# Altium footprint library Audio Port.PcbLib: 13 footprints
Each footprint in its own frame and in the unit in brackets; x right, y up, seen from the top. Pads: shape width x height; smd on the part's side, far side on the other; paste and mask are expansions set on the pad; w line width, h text height; cw(c..) or ccw(c..) is an arc to the next point about the centre after c.
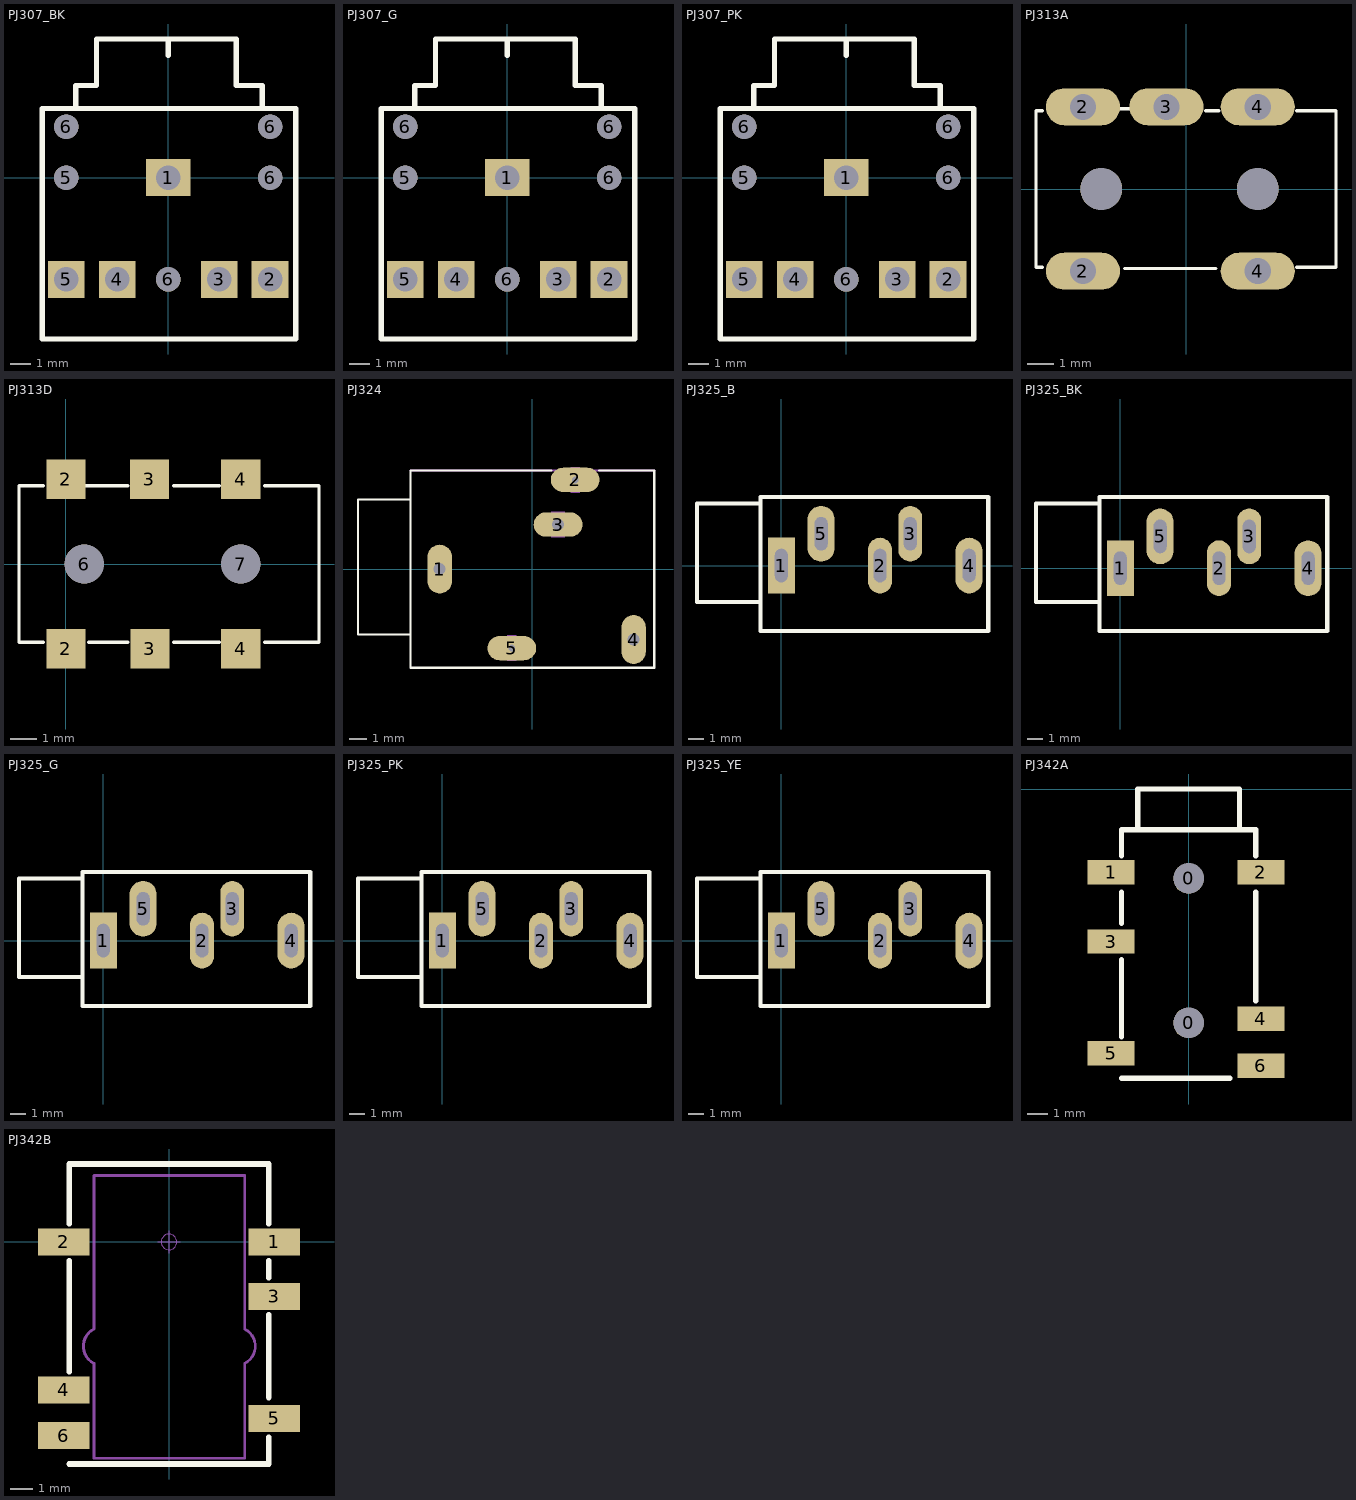
[diagram p0: the footprints below, top view; thin cyan lines are the x and y axes]

## PJ307_BK [mm] "14.2*12*5mm"
pads (10):
  rect 2.2x1.8 hole 1.2: 1(0,0)
  rect 1.8x1.8 hole 1.2: 2(5,-5) 3(2.5,-5) 4(-2.5,-5) 5(-5,-5)
  round 1.2 hole 1.2 unplated: 5(-5,0) 6(-5,2.5) 6(0,-5) 6(5,0) 6(5,2.5)
Top Overlay:
  lines w0.254: -4.532,3.382 -4.532,4.525 -3.516,4.525 -3.516,6.8 3.342,6.8 3.342,4.525 4.612,4.525 4.612,3.382 ; 0,6 0,6.8 ; -6.183,-7.921 6.263,-7.921 6.263,3.382 -6.183,3.382 -6.183,-7.921
3D body "3F07_BK.STEP": height 5.6, standoff -2.9, extent -6,-7.7 6,6.5

## PJ307_G [mm] "14.2*12*5mm"
pads (10):
  rect 2.2x1.8 hole 1.2: 1(0,0)
  rect 1.8x1.8 hole 1.2: 2(5,-5) 3(2.5,-5) 4(-2.5,-5) 5(-5,-5)
  round 1.2 hole 1.2 unplated: 5(-5,0) 6(-5,2.5) 6(0,-5) 6(5,0) 6(5,2.5)
Top Overlay:
  lines w0.254: -4.532,3.382 -4.532,4.525 -3.516,4.525 -3.516,6.8 3.342,6.8 3.342,4.525 4.612,4.525 4.612,3.382 ; 0,6 0,6.8 ; -6.183,-7.921 -6.183,3.382 6.263,3.382 6.263,-7.921 -6.183,-7.921
3D body "3F07_G.STEP": height 5.6, standoff -2.9, extent -6,-7.7 6,6.5

## PJ307_PK [mm] "14.2*12*5mm"
pads (10):
  rect 2.2x1.8 hole 1.2: 1(0,0)
  rect 1.8x1.8 hole 1.2: 2(5,-5) 3(2.5,-5) 4(-2.5,-5) 5(-5,-5)
  round 1.2 hole 1.2 unplated: 5(-5,0) 6(-5,2.5) 6(0,-5) 6(5,0) 6(5,2.5)
Top Overlay:
  lines w0.254: -4.532,3.382 -4.532,4.525 -3.516,4.525 -3.516,6.8 3.342,6.8 3.342,4.525 4.612,4.525 4.612,3.382 ; 0,6 0,6.8 ; -6.183,-7.921 -6.183,3.382 6.263,3.382 6.263,-7.921 -6.183,-7.921
3D body "3F07_PK.STEP": height 5.6, standoff -2.9, extent -6,-7.7 6,6.5

## PJ313A [mm]
pads (7):
  oval 2.845x1.422 hole 1: 2(-3.95,-3.15) 2(-3.95,3.15) 3(-0.75,3.15) 4(2.75,-3.15) 4(2.75,3.15)
  round 1.6 hole 1.6 unplated: ""(-3.25,0) ""(2.75,0)
Top Overlay:
  lines w0.127: -5.5,-3 -5.75,-3 -5.75,3 -5.5,3 ; -2.622,3.082 -2.122,3.082 ; -2.357,-3.048 1.143,-3.048 ; 0.75,3 1.25,3 ; 4.25,-3 5.75,-3 5.75,3 4.25,3
Mechanical 1:
  region: -0.1,2.75 -1.4,2.75 -1.4,3.55 -0.1,3.55
  region: 3.4,-3.55 2.1,-3.55 2.1,-2.75 3.4,-2.75
  region: 3.4,2.75 2.1,2.75 2.1,3.55 3.4,3.55
  region: -3.3,-3.55 -4.6,-3.55 -4.6,-2.75 -3.3,-2.75
  region: -3.3,2.75 -4.6,2.75 -4.6,3.55 -3.3,3.55
3D body "TRS Jack.stp": height 4.51, standoff -3.51, extent -8.238,-3.422 5.762,3.384

## PJ313D [mm]
pads (8):
  rect 1.5x1.5 smd: 2(0,-3.25) 2(0,3.25) 3(3.2,3.25) 3(3.22,-3.25) 4(6.7,-3.25) 4(6.7,3.25)
  round 1.5 hole 1.5 unplated: 6(0.7,0) 7(6.7,0)
Top Overlay:
  lines w0.127: -0.875,-3 -1.8,-3 -1.8,3 -0.875,3 ; 0.75,3 1.25,3 ; 0.875,-3 2.375,-3 ; 0.875,3 2.375,3 ; 4.125,-3 5.875,-3 ; 4.125,3 5.875,3 ; 4.25,3 5.75,3 ; 7.625,-3 9.7,-3 9.7,3 7.625,3
3D body "JackPJ313D.STEP": height 5.2, standoff -0.8, extent -4.46,-4.572 9.54,4.428

## PJ324 [mm]
pads (5):
  oval 1.422x2.845 hole 0.7: 1(-5.4,0) 4(5.9,-4.1)
  oval 2.845x1.422 hole 0.4: 2(2.5,5.2) 5(-1.2,-4.6)
  oval 2.845x1.422 hole 0.7: 3(1.5,2.6)
Top Overlay:
  lines w0.127: -7.112,-3.81 -10.16,-3.81 -10.16,4.064 -7.112,4.064 ; 1.125,5.75 -7.1,5.75 -7.1,-5.75 7.1,-5.75 7.1,5.75 3.875,5.75
Mechanical 1:
  region: 2.75,4.45 2.25,4.45 2.25,5.95 2.75,5.95
  region: -0.95,-5.35 -1.45,-5.35 -1.45,-3.85 -0.95,-3.85
  region: 6.3,-4.85 5.5,-4.85 5.5,-3.35 6.3,-3.35
  region: 1.9,1.85 1.1,1.85 1.1,3.35 1.9,3.35
  region: -5,-0.75 -5.8,-0.75 -5.8,0.75 -5,0.75
Mechanical 13:
  lines w0.127: -7.1,5.75 7.1,5.75

## PJ325_B [mm] "��ɫ��18*8.1*12.3mm"
pads (5):
  rect 1.7x3.5 hole 0.8 slot 2.1 at 90 deg: 1(0,0)
  oval 1.5x3.5 hole 0.8 slot 2.1 at 90 deg: 2(6.2,0) 3(8.1,2)
  oval 1.7x3.5 hole 0.8 slot 2.1 at 90 deg: 4(11.8,0) 5(2.5,2)
Top Overlay:
  lines w0.254: -1.3,-2.3 -5.3,-2.3 -5.3,3.9 -1.3,3.9 ; -1.3,-4.1 -1.3,4.3 13,4.3 13,-4.1 -1.3,-4.1
3D body "PJ325_B.STEP": height 12.35, standoff -2.9, extent -5.23,-3.9 12.8,4.2

## PJ325_BK [mm] "��ɫ��18*8.1*12.3mm"
pads (5):
  rect 1.7x3.5 hole 0.8 slot 2.1 at 90 deg: 1(0,0)
  oval 1.5x3.5 hole 0.8 slot 2.1 at 90 deg: 2(6.2,0) 3(8.1,2)
  oval 1.7x3.5 hole 0.8 slot 2.1 at 90 deg: 4(11.8,0) 5(2.5,2)
Top Overlay:
  lines w0.254: -1.3,-2.136 -5.3,-2.136 -5.3,4.064 -1.3,4.064 ; -1.3,-3.936 -1.3,4.464 13,4.464 13,-3.936 -1.3,-3.936
3D body "PJ325_BK.STEP": height 12.35, standoff -2.9, extent -5.23,-3.9 12.8,4.2

## PJ325_G [mm] "��ɫ��18*8.1*12.3mm"
pads (5):
  rect 1.7x3.5 hole 0.8 slot 2.1 at 90 deg: 1(0,0)
  oval 1.5x3.5 hole 0.8 slot 2.1 at 90 deg: 2(6.2,0) 3(8.1,2)
  oval 1.7x3.5 hole 0.8 slot 2.1 at 90 deg: 4(11.8,0) 5(2.5,2)
Top Overlay:
  lines w0.254: -1.3,-2.3 -5.3,-2.3 -5.3,3.9 -1.3,3.9 ; -1.3,-4.1 -1.3,4.3 13,4.3 13,-4.1 -1.3,-4.1
3D body "PJ325_G.STEP": height 12.35, standoff -2.9, extent -5.23,-3.9 12.8,4.2

## PJ325_PK [mm] "��ɫ��18*8.1*12.3mm"
pads (5):
  rect 1.7x3.5 hole 0.8 slot 2.1 at 90 deg: 1(0,0)
  oval 1.5x3.5 hole 0.8 slot 2.1 at 90 deg: 2(6.2,0) 3(8.1,2)
  oval 1.7x3.5 hole 0.8 slot 2.1 at 90 deg: 4(11.8,0) 5(2.5,2)
Top Overlay:
  lines w0.254: -1.3,-2.3 -5.3,-2.3 -5.3,3.9 -1.3,3.9 ; -1.3,-4.1 -1.3,4.3 13,4.3 13,-4.1 -1.3,-4.1
3D body "PJ325_PK.STEP": height 12.35, standoff -2.9, extent -5.23,-3.9 12.8,4.2

## PJ325_YE [mm] "��ɫ��18*8.1*12.3mm"
pads (5):
  rect 1.7x3.5 hole 0.8 slot 2.1 at 90 deg: 1(0,0)
  oval 1.5x3.5 hole 0.8 slot 2.1 at 90 deg: 2(6.2,0) 3(8.1,2)
  oval 1.7x3.5 hole 0.8 slot 2.1 at 90 deg: 4(11.8,0) 5(2.5,2)
Top Overlay:
  lines w0.254: -1.3,-2.3 -5.3,-2.3 -5.3,3.9 -1.3,3.9 ; -1.3,-4.1 -1.3,4.3 13,4.3 13,-4.1 -1.3,-4.1
3D body "PJ325_YE.STEP": height 12.35, standoff -2.9, extent -5.23,-3.9 12.8,4.2

## PJ342A [mm] "��ͷ"
pads (8):
  round 1.5 hole 1.5: 0(0,-11.5) 0(0,-4.4)
  rect 2.3x1.2 smd: 1(-3.81,-4.1) 2(3.556,-4.1) 3(-3.81,-7.5) 4(3.556,-11.3) 5(-3.81,-13) 6(3.556,-13.6)
Top Overlay:
  lines w0.254: -3.302,-14.224 2.032,-14.224 ; -3.302,-12.192 -3.302,-8.382 ; -3.302,-6.604 -3.302,-5.08 ; -3.302,-3.302 -3.302,-2 3.302,-2 3.302,-3.302 ; -2.5,-2 -2.5,0 2.5,0 2.5,-2 ; 3.302,-10.414 3.302,-5.08
3D body "PJ342A.STEP": height 4.7, standoff -0.6, extent -4.15,-14.1 4.15,0

## PJ342B [mm] "����ʽ����ͷ"
pads (6):
  rect 2.3x1.2 smd: 1(4.699,0) 2(-4.699,0) 3(4.699,-2.43) 4(-4.699,-6.604) 5(4.699,-7.874) 6(-4.699,-8.636)
Top Overlay:
  lines w0.254: -4.445,-9.906 4.445,-9.906 4.445,-9.476 4.445,-8.714 ; -4.445,-5.793 -4.445,-0.84 ; -4.445,0.811 -4.445,3.478 4.445,3.478 4.445,0.811 ; 4.445,-6.936 4.445,-3.253 ; 4.445,-1.602 4.445,-0.84
Mechanical 1:
  lines w0.127: -3.353,-9.652 -3.353,-5.412 cw(c-2.972,-4.65) -3.353,-3.888 -3.353,2.97 3.378,2.97 3.378,-3.888 cw(c2.997,-4.65) 3.378,-5.412 3.378,-9.652 -3.353,-9.652
Mechanical 15:
  circle w0.05: c0,0 r0.35
  lines w0.05: -0.5,0 0.5,0 ; 0,-0.5 0,0.5
3D body "PJ342B.STEP": height 1.25, standoff -2.75, extent -4.75,-9.25 4.75,3.732